# EAGLE library part TPA2016D2 (library mike-temp)
2.8-W/Ch Stereo Class-D Audio Amplifier with I2C volume control, DRC and AGC The TPA2016D2 is a stereo, filter-free Class-D audio power amplifier with volume control, dynamic range compression (DRC) and automatic gain control (AGC). It is available in a 2.2 mm x 2.2 mm WCSP package and 20-pin QFN package. The DRC/AGC function in the TPA2016D2 is programmable via a digital I2C interface. The DRC/AGC function can be configured to automatically prevent distortion of the audio signal and enhance quiet passages that are normally not heard. The DRC/AGC can also be configured to protect the speaker from damage at high power levels and compress the dynamic range of music to fit within the dynamic range of the speaker. The gain can be selected from ?28 dB to +30 dB in 1-dB steps. The TPA2016D2 is capable of driving 1.7 W/Ch at 5 V or750 mW/Ch at 3.6 V into 8 ? load or 2.8 W/Ch at 5 V or 1.5 W/Ch at 3.6 V into 4 ? load. The device features independent software shutdown controls for each channel and also provides thermal and short circuit protection. In addition to these features, a fast start-up time and small package size make the TPA2016D2 an ideal choice for cellular handsets, PDAs and other portable applications. · 1.7 W/Ch Into 8 ? at 5 V (10% THD+N) · 750 mW/Ch Into 8 ? at 3.6 V (10% THD+N) · 2.8 W/Ch Into 4 ? at 5 V (10% THD+N) · 1.5 W/Ch Into 4 ? at 3.6 V (10% THD+N) · Power Supply Range: 2.5 V to 5.5 V · Flexible Operation With/Without I2C · Programmable DRC/AGC Parameters · Digital I2C Volume Control · Selectable Gain from ?28 dB to 30 dB in 1-dB Steps (when compression is used) · Selectable Attack, Release and Hold Times · 4 Selectable Compression Ratios · Low Supply Current: 3.5 mA · Low Shutdown Current: 0.2 mA · High PSRR: 80 dB · Fast Start-up Time: 5 ms circuit protection. · AGC Enable/Disable Function · Limiter Enable/Disable Function · Short-Circuit and Thermal Protection
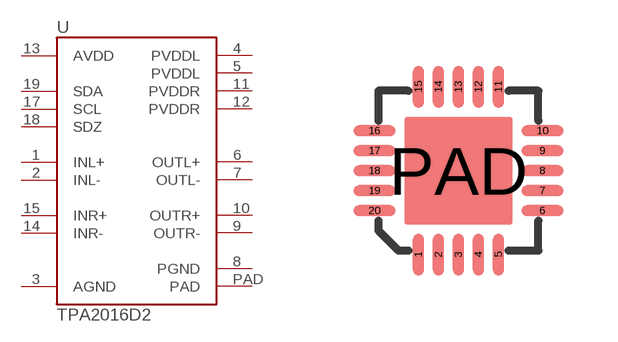
[diagram p15: symbol with the pads of QFN-20-0.5MM; footprint QFN-20-0.5MM]

Designator prefix U

## TPA2016D2RTJ  [QFN-20-0.5MM]
1  INL+  in
2  INL-  in
3  AGND  pwr
4  PVDDL  pwr
5  PVDDL  pwr
6  OUTL+  out
7  OUTL-  out
8  PGND  pwr
9  OUTR-  out
10  OUTR+  out
11  PVDDR  pwr
12  PVDDR  pwr
13  AVDD  pwr
14  INR-  in
15  INR+  in
17  SCL
18  SDZ  in
19  SDA
PAD  PAD  pwr

## Footprint QFN-20-0.5MM (pad centres in mm)
smd 0.28 x 1.05: 1 -1,-2.1; 2 -0.5,-2.1; 3 0,-2.1; 4 0.5,-2.1; 5 1,-2.1; 11 1,2.1; 12 0.5,2.1; 13 0,2.1; 14 -0.5,2.1; 15 -1,2.1
smd 1.05 x 0.28: 6 2.1,-1; 7 2.1,-0.5; 8 2.1,0; 9 2.1,0.5; 10 2.1,1; 16 -2.1,1; 17 -2.1,0.5; 18 -2.1,0; 19 -2.1,-0.5; 20 -2.1,-1
smd 2.7 x 2.7: PAD 0,0